# EAGLE library part HIROSE_DM3D (library thomas_library)
This is the Hirose DM3D, a microSD card adapter with a mechanical connection detect switch.
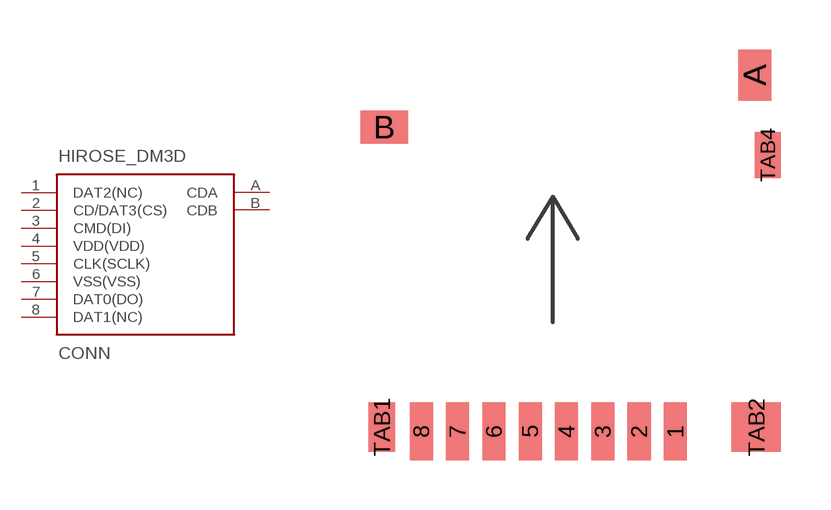
[diagram p20: symbol with the pads of HIROSE_DM3D; footprint HIROSE_DM3D]

Designator prefix CONN

## HIROSE_DM3D  [HIROSE_DM3D]
1  DAT2(NC)
2  CD/DAT3(CS)
3  CMD(DI)
4  VDD(VDD)
5  CLK(SCLK)
6  VSS(VSS)
7  DAT0(DO)
8  DAT1(NC)
A  CDA
B  CDB

## Footprint HIROSE_DM3D (pad centres in mm)
This is the recommended footprint for the Hirose DM3D microSD card adapter. Validated 7/30/2013. Arrow points in the direction that the card is inserted.
smd 0.7 x 1.75: 1 3.72,-5.08; 2 2.62,-5.08; 3 1.52,-5.08; 4 0.42,-5.08; 5 -0.68,-5.08; 6 -1.78,-5.08; 7 -2.88,-5.08; 8 -3.98,-5.08
smd 1 x 1.55: A 6.12,5.72
smd 1.45 x 1: B -5.105,4.145
smd 0.8 x 1.5: TAB1 -5.18,-4.955
smd 1.5 x 1.5: TAB2 6.17,-4.955
smd 0.8 x 1.4: TAB4 6.52,3.295